# EAGLE library part 74283 (library dooba)
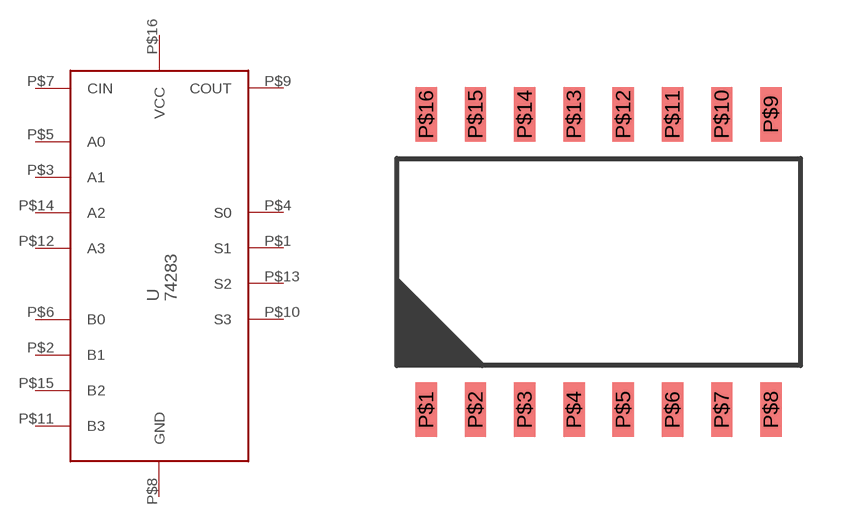
[diagram p42: symbol with the pads of SO16; footprint SO16]

Designator prefix U

## 74283NS  [SO16]
P$1  S1
P$2  B1
P$3  A1
P$4  S0
P$5  A0
P$6  B0
P$7  CIN
P$8  GND
P$9  COUT
P$10  S3
P$11  B3
P$12  A3
P$13  S2
P$14  A2
P$15  B2
P$16  VCC

## Footprint SO16 (pad centres in mm)
smd 0.55 x 1.4: P$1 -4.445,-3.81; P$2 -3.175,-3.81; P$3 -1.905,-3.81; P$4 -0.635,-3.81; P$5 0.635,-3.81; P$6 1.905,-3.81; P$7 3.175,-3.81; P$8 4.445,-3.81; P$9 4.445,3.81; P$10 3.175,3.81; P$11 1.905,3.81; P$12 0.635,3.81; P$13 -0.635,3.81; P$14 -1.905,3.81; P$15 -3.175,3.81; P$16 -4.445,3.81